# Altium schematic symbol library Components - 27.09.24 - 08.44.SchLib: 1 symbol
Pins are listed as number, name and electrical type; pins without a type are passive.

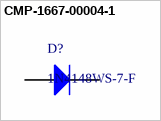
[diagram p0: symbol CMP-1667-00004-1]

## CMP-1667-00004-1
designator D?, comment 1N4148WS-7-F
Fast Switching Diode, 75 V, 0.3 A, -65 to 150 degC, 2-Pin SOD323, RoHS, Tape and Reel; DatasheetVersion: Rev. 25-2, 03/2016; PackageDescription: 2-Pin Small Outline Diode, Body 1.7 x 1.3 mm; ComponentLink2Description: Datasheet; ComponentLink1URL: http://www.diodes.com/; PackageReference: SOD323-2; ComponentLink2URL: http://www.diodes.com/datasheets/ds30097.pdf; ComponentLink1Description: Manufacturer URL
footprint DIOD-SOD323-2-A_V (SOD-323, 2-Leads, Body 1.7x1.3mm)
pins: 1 A, 2 K